# Altium integrated library TI_Logic_Flip-Flop,Latch,Register.IntLib: 2598 symbols (part 4 of 122)
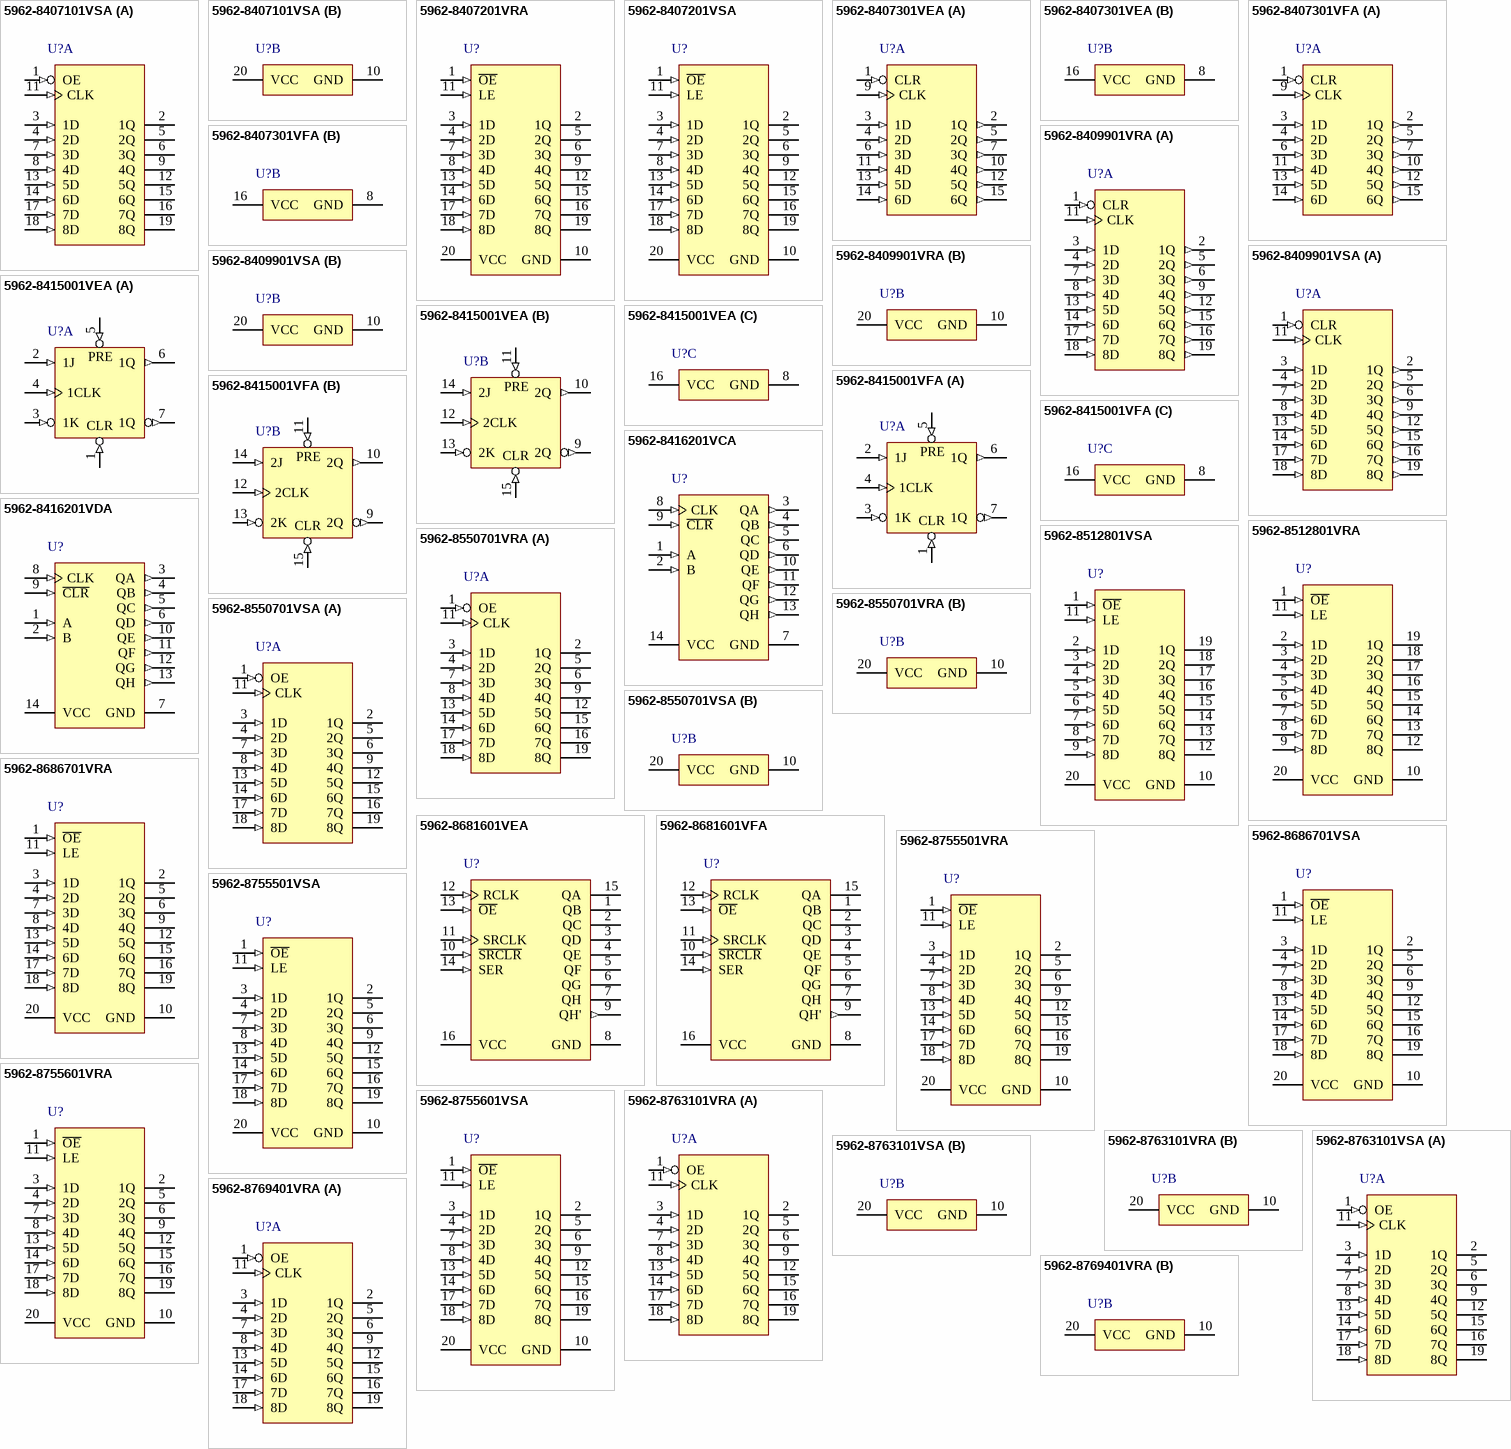
[diagram p142: symbols 5962-8407101VSA to 5962-8769401VRA]

## 5962-8755501VSA
designator U?
Octal D-type Transparent Latches With 3-State Outputs, W0020A, TUBE; Generic Part Number: SN54AC373-SP; Manufacturer: Texas Instruments; PartNumber: 5962-8755501VSA; VCC(Min)(V): 2; VCC(Max)(V): 6; Output Type: CMOS; Logic: True; ICC @ Nom Voltage(Max)(mA): 0.08; Bits(#): 8; F @ Nom Voltage(Max)(Mhz): 100; Rating: Space; Technology Family: AC; Voltage(Nom)(V): 3.3,5; Schmitt Trigger: No; Output Drive (IOL/IOH)(Max)(mA): 24/-24; Output Logic: Non-inverted; 3-State Output: Yes; tpd @ Nom Voltage(Max)(ns): 15,10.5; DatasheetVersion: SCAS540D; PackageReference: W0020A; Input Type: CMOS; Operating Temperature Range(C): -55 to 125; ComponentLink1Description: Manufacturer URL; ComponentLink1URL: http://www.ti.com/; ComponentLink2Description: Datasheet; ComponentLink2URL: http://www.ti.com/lit/ds/symlink/sn54ac373-sp.pdf; ComponentLink3Description: Package Specification; ComponentLink3URL: http://www.ti.com/lit/ml/mcfp006d/mcfp006d.pdf
footprint W0020A_N (CFP, 20-Leads, Body 13.72x7.62mm, Pitch 1.27mm, IPC Medium Density)
footprint W0020A_M (CFP, 20-Leads, Body 13.72x7.62mm, Pitch 1.27mm, IPC Low Density)
footprint W0020A_L (CFP, 20-Leads, Body 13.72x7.62mm, Pitch 1.27mm, IPC High Density)
pins: 1 ~{OE} (in) "Output Enable", 2 1Q (hiz) "1Q Output", 3 1D (in) "1D Input", 4 2D (in) "2D Input", 5 2Q (hiz) "2Q Output", 6 3Q (hiz) "3Q Output", 7 3D (in) "3D Input", 8 4D (in) "4D Input", 9 4Q (hiz) "4Q Output", 10 GND (power) "Ground Pin", 11 LE (in) "Latch Enable", 12 5Q (hiz) "5Q Output", 13 5D (in) "5D Input", 14 6D (in) "6D Input", 15 6Q (hiz) "6Q Output", 16 7Q (hiz) "7Q Output", 17 7D (in) "7D Input", 18 8D (in) "8D Input", 19 8Q (hiz) "8Q Output", 20 VCC (power) "Power Pin"

## 5962-8755601VRA
designator U?
Octal D-type Transparent Latches With 3-State Outputs, J0020A, TUBE; Generic Part Number: SN54ACT373-SP; Manufacturer: Texas Instruments; PartNumber: 5962-8755601VRA; VCC(Min)(V): 4.5; VCC(Max)(V): 5.5; Output Type: CMOS; Logic: True; ICC @ Nom Voltage(Max)(mA): 0.04; Input Type: TTL; Bits(#): 8; F @ Nom Voltage(Max)(Mhz): 90; Rating: Space; Technology Family: ACT; Schmitt Trigger: No; Output Drive (IOL/IOH)(Max)(mA): 24/-24; Output Logic: Non-inverted; 3-State Output: Yes; tpd @ Nom Voltage(Max)(ns): 11.5; DatasheetVersion: SCAS544E; PackageReference: J0020A; Operating Temperature Range(C): -55 to 125; ComponentLink1Description: Manufacturer URL; ComponentLink1URL: http://www.ti.com/; ComponentLink2Description: Datasheet; ComponentLink2URL: http://www.ti.com/lit/ds/symlink/sn54act373-sp.pdf; ComponentLink3Description: Package Specification; ComponentLink3URL: http://www.ti.com/lit/ml/mcer002d/mcer002d.pdf
footprint J0020A (DIP, 20-Leads, Body 26.9x7.2mm, Pitch 2.54mm)
pins: 1 ~{OE} (in) "Output Enable", 2 1Q (hiz) "1Q Output", 3 1D (in) "1D Input", 4 2D (in) "2D Input", 5 2Q (hiz) "2Q Output", 6 3Q (hiz) "3Q Output", 7 3D (in) "3D Input", 8 4D (in) "4D Input", 9 4Q (hiz) "4Q Output", 10 GND (power) "Ground Pin", 11 LE (in) "Latch Enable", 12 5Q (hiz) "5Q Output", 13 5D (in) "5D Input", 14 6D (in) "6D Input", 15 6Q (hiz) "6Q Output", 16 7Q (hiz) "7Q Output", 17 7D (in) "7D Input", 18 8D (in) "8D Input", 19 8Q (hiz) "8Q Output", 20 VCC (power) "Power Pin"

## 5962-8755601VSA
designator U?
Octal D-type Transparent Latches With 3-State Outputs, W0020A, TUBE; Generic Part Number: SN54ACT373-SP; Manufacturer: Texas Instruments; PartNumber: 5962-8755601VSA; VCC(Min)(V): 4.5; VCC(Max)(V): 5.5; Output Type: CMOS; Logic: True; ICC @ Nom Voltage(Max)(mA): 0.04; Input Type: TTL; Bits(#): 8; F @ Nom Voltage(Max)(Mhz): 90; Rating: Space; Technology Family: ACT; Schmitt Trigger: No; Output Drive (IOL/IOH)(Max)(mA): 24/-24; Output Logic: Non-inverted; 3-State Output: Yes; tpd @ Nom Voltage(Max)(ns): 11.5; DatasheetVersion: SCAS544E; PackageReference: W0020A; Operating Temperature Range(C): -55 to 125; ComponentLink1Description: Manufacturer URL; ComponentLink1URL: http://www.ti.com/; ComponentLink2Description: Datasheet; ComponentLink2URL: http://www.ti.com/lit/ds/symlink/sn54act373-sp.pdf; ComponentLink3Description: Package Specification; ComponentLink3URL: http://www.ti.com/lit/ml/mcfp006d/mcfp006d.pdf
footprint W0020A_N (CFP, 20-Leads, Body 13.72x7.62mm, Pitch 1.27mm, IPC Medium Density)
footprint W0020A_M (CFP, 20-Leads, Body 13.72x7.62mm, Pitch 1.27mm, IPC Low Density)
footprint W0020A_L (CFP, 20-Leads, Body 13.72x7.62mm, Pitch 1.27mm, IPC High Density)
pins: 1 ~{OE} (in) "Output Enable", 2 1Q (hiz) "1Q Output", 3 1D (in) "1D Input", 4 2D (in) "2D Input", 5 2Q (hiz) "2Q Output", 6 3Q (hiz) "3Q Output", 7 3D (in) "3D Input", 8 4D (in) "4D Input", 9 4Q (hiz) "4Q Output", 10 GND (power) "Ground Pin", 11 LE (in) "Latch Enable", 12 5Q (hiz) "5Q Output", 13 5D (in) "5D Input", 14 6D (in) "6D Input", 15 6Q (hiz) "6Q Output", 16 7Q (hiz) "7Q Output", 17 7D (in) "7D Input", 18 8D (in) "8D Input", 19 8Q (hiz) "8Q Output", 20 VCC (power) "Power Pin"

## 5962-8763101VRA
designator U?
Octal D-type Edge-Triggered Flip-Flops With 3-State Outputs, J0020A, TUBE; Generic Part Number: SN54ACT374-SP; Manufacturer: Texas Instruments; PartNumber: 5962-8763101VRA; VCC(Min)(V): 4.5; VCC(Max)(V): 5.5; Output Type: CMOS; ICC @ Nom Voltage(Max)(mA): 0.04; Input Type: TTL; Bits(#): 8; F @ Nom Voltage(Max)(Mhz): 90; Rating: Space; Technology Family: ACT; Schmitt Trigger: No; Output Drive (IOL/IOH)(Max)(mA): 24/-24; Output Logic: Non-inverted; 3-State Output: Yes; tpd @ Nom Voltage(Max)(ns): 11.5; DatasheetVersion: SCAS539F; PackageReference: J0020A; Operating Temperature Range(C): -55 to 125; ComponentLink1Description: Manufacturer URL; ComponentLink1URL: http://www.ti.com/; ComponentLink2Description: Datasheet; ComponentLink2URL: http://www.ti.com/lit/ds/symlink/sn54act374-sp.pdf; ComponentLink3Description: Package Specification; ComponentLink3URL: http://www.ti.com/lit/ml/mcer002d/mcer002d.pdf
footprint J0020A (DIP, 20-Leads, Body 26.9x7.2mm, Pitch 2.54mm)
part A pins: 1 OE (in), 2 1Q (hiz), 3 1D (in), 4 2D (in), 5 2Q (hiz), 6 3Q (hiz), 7 3D (in), 8 4D (in), 9 4Q (hiz), 11 CLK (in), 12 5Q (hiz), 13 5D (in), 14 6D (in), 15 6Q (hiz), 16 7Q (hiz), 17 7D (in), 18 8D (in), 19 8Q (hiz)
part B pins: 10 GND (power), 20 VCC (power)

## 5962-8763101VSA
designator U?
Octal D-type Edge-Triggered Flip-Flops With 3-State Outputs, W0020A, TUBE; Generic Part Number: SN54ACT374-SP; Manufacturer: Texas Instruments; PartNumber: 5962-8763101VSA; VCC(Min)(V): 4.5; VCC(Max)(V): 5.5; Output Type: CMOS; ICC @ Nom Voltage(Max)(mA): 0.04; Input Type: TTL; Bits(#): 8; F @ Nom Voltage(Max)(Mhz): 90; Rating: Space; Technology Family: ACT; Schmitt Trigger: No; Output Drive (IOL/IOH)(Max)(mA): 24/-24; Output Logic: Non-inverted; 3-State Output: Yes; tpd @ Nom Voltage(Max)(ns): 11.5; DatasheetVersion: SCAS539F; PackageReference: W0020A; Operating Temperature Range(C): -55 to 125; ComponentLink1Description: Manufacturer URL; ComponentLink1URL: http://www.ti.com/; ComponentLink2Description: Datasheet; ComponentLink2URL: http://www.ti.com/lit/ds/symlink/sn54act374-sp.pdf; ComponentLink3Description: Package Specification; ComponentLink3URL: http://www.ti.com/lit/ml/mcfp006d/mcfp006d.pdf
footprint W0020A_N (CFP, 20-Leads, Body 13.72x7.62mm, Pitch 1.27mm, IPC Medium Density)
footprint W0020A_M (CFP, 20-Leads, Body 13.72x7.62mm, Pitch 1.27mm, IPC Low Density)
footprint W0020A_L (CFP, 20-Leads, Body 13.72x7.62mm, Pitch 1.27mm, IPC High Density)
part A pins: 1 OE (in), 2 1Q (hiz), 3 1D (in), 4 2D (in), 5 2Q (hiz), 6 3Q (hiz), 7 3D (in), 8 4D (in), 9 4Q (hiz), 11 CLK (in), 12 5Q (hiz), 13 5D (in), 14 6D (in), 15 6Q (hiz), 16 7Q (hiz), 17 7D (in), 18 8D (in), 19 8Q (hiz)
part B pins: 10 GND (power), 20 VCC (power)

## 5962-8769401VRA
designator U?
Octal D-Type Edge-Triggered Flip-Flops with 3-State Outputs, J0020A, TUBE; Generic Part Number: SN54AC374-SP; Manufacturer: Texas Instruments; PartNumber: 5962-8769401VRA; VCC(Min)(V): 2; VCC(Max)(V): 6; Output Type: CMOS; ICC @ Nom Voltage(Max)(mA): 0.04; Bits(#): 8; F @ Nom Voltage(Max)(Mhz): 100; Rating: Space; Technology Family: AC; Voltage(Nom)(V): 3.3,5; Schmitt Trigger: No; Output Drive (IOL/IOH)(Max)(mA): 24/-24; Output Logic: Non-inverted; 3-State Output: Yes; tpd @ Nom Voltage(Max)(ns): 15.5,10.5; DatasheetVersion: SCAS543E; PackageReference: J0020A; Input Type: CMOS; Operating Temperature Range(C): -55 to 125; ComponentLink1Description: Manufacturer URL; ComponentLink1URL: http://www.ti.com/; ComponentLink2Description: Datasheet; ComponentLink2URL: http://www.ti.com/lit/ds/symlink/sn54ac374-sp.pdf; ComponentLink3Description: Package Specification; ComponentLink3URL: http://www.ti.com/lit/ml/mcer002d/mcer002d.pdf
footprint J0020A (DIP, 20-Leads, Body 26.9x7.2mm, Pitch 2.54mm)
part A pins: 1 OE (in), 2 1Q (hiz), 3 1D (in), 4 2D (in), 5 2Q (hiz), 6 3Q (hiz), 7 3D (in), 8 4D (in), 9 4Q (hiz), 11 CLK (in), 12 5Q (hiz), 13 5D (in), 14 6D (in), 15 6Q (hiz), 16 7Q (hiz), 17 7D (in), 18 8D (in), 19 8Q (hiz)
part B pins: 10 GND (power), 20 VCC (power)

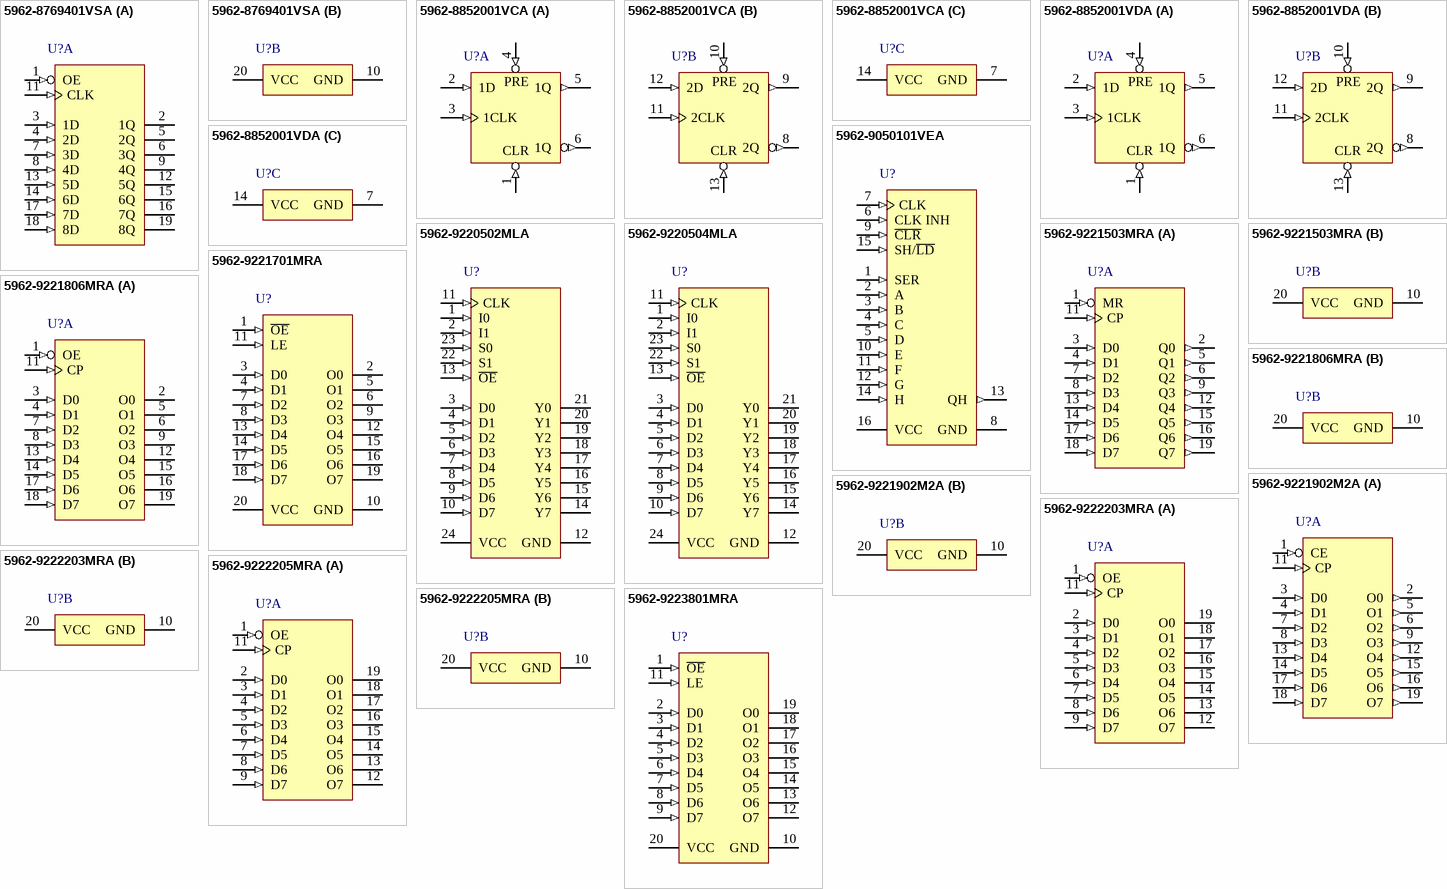
[diagram p5: symbols 5962-8769401VSA to 5962-9223801MRA]

## 5962-8769401VSA
designator U?
Octal D-Type Edge-Triggered Flip-Flops with 3-State Outputs, W0020A, TUBE; Generic Part Number: SN54AC374-SP; Manufacturer: Texas Instruments; PartNumber: 5962-8769401VSA; VCC(Min)(V): 2; VCC(Max)(V): 6; Output Type: CMOS; ICC @ Nom Voltage(Max)(mA): 0.04; Bits(#): 8; F @ Nom Voltage(Max)(Mhz): 100; Rating: Space; Technology Family: AC; Voltage(Nom)(V): 3.3,5; Schmitt Trigger: No; Output Drive (IOL/IOH)(Max)(mA): 24/-24; Output Logic: Non-inverted; 3-State Output: Yes; tpd @ Nom Voltage(Max)(ns): 15.5,10.5; DatasheetVersion: SCAS543E; PackageReference: W0020A; Input Type: CMOS; Operating Temperature Range(C): -55 to 125; ComponentLink1Description: Manufacturer URL; ComponentLink1URL: http://www.ti.com/; ComponentLink2Description: Datasheet; ComponentLink2URL: http://www.ti.com/lit/ds/symlink/sn54ac374-sp.pdf; ComponentLink3Description: Package Specification; ComponentLink3URL: http://www.ti.com/lit/ml/mcfp006d/mcfp006d.pdf
footprint W0020A_N (CFP, 20-Leads, Body 13.72x7.62mm, Pitch 1.27mm, IPC Medium Density)
footprint W0020A_M (CFP, 20-Leads, Body 13.72x7.62mm, Pitch 1.27mm, IPC Low Density)
footprint W0020A_L (CFP, 20-Leads, Body 13.72x7.62mm, Pitch 1.27mm, IPC High Density)
part A pins: 1 OE (in), 2 1Q (hiz), 3 1D (in), 4 2D (in), 5 2Q (hiz), 6 3Q (hiz), 7 3D (in), 8 4D (in), 9 4Q (hiz), 11 CLK (in), 12 5Q (hiz), 13 5D (in), 14 6D (in), 15 6Q (hiz), 16 7Q (hiz), 17 7D (in), 18 8D (in), 19 8Q (hiz)
part B pins: 10 GND (power), 20 VCC (power)

## 5962-8852001VCA
designator U?
Dual Positive-Edge-Triggered D-Type- Flip-Flops With Clear And Preset, J0014A, TUBE; Generic Part Number: SN54AC74-SP; Manufacturer: Texas Instruments; PartNumber: 5962-8852001VCA; VCC(Min)(V): 2; VCC(Max)(V): 6; Output Type: CMOS; Output: 3S; ICC @ Nom Voltage(Max)(mA): 0.02; F @ Nom Voltage(Max)(Mhz): 100; Rating: Space; Technology Family: AC; Voltage(Nom)(V): 3.3,5; Schmitt Trigger: No; Output Drive (IOL/IOH)(Max)(mA): 24/-24; tpd @ Nom Voltage(Max)(ns): 13.5,10.5; DatasheetVersion: SCAS521F; PackageReference: J0014A; Input Type: CMOS; Bits(#): 2; Operating Temperature Range(C): -55 to 125; ComponentLink1Description: Manufacturer URL; ComponentLink1URL: http://www.ti.com/; ComponentLink2Description: Datasheet; ComponentLink2URL: http://www.ti.com/lit/ds/symlink/sn54ac74-sp.pdf; ComponentLink3Description: Package Specification; ComponentLink3URL: http://www.ti.com/lit/ml/mcer002d/mcer002d.pdf
footprint J0014A (DIP, 14-Leads, Body 19.95x7.2mm, Pitch 2.54mm)
part A pins: 1 1~{CLR} (in), 2 1D (in), 3 1CLK (in), 4 1~{PRE} (in), 5 1Q (out), 6 1Q (out)
part B pins: 8 2Q (out), 9 2Q (out), 10 2~{PRE} (in), 11 2CLK (in), 12 2D (in), 13 2~{CLR} (in)
part C pins: 7 GND (power), 14 VCC (power)
part A text: PRE; CLR
part B text: PRE; CLR

## 5962-8852001VDA
designator U?
Dual Positive-Edge-Triggered D-Type- Flip-Flops With Clear And Preset, W0014A, TUBE; Generic Part Number: SN54AC74-SP; Manufacturer: Texas Instruments; PartNumber: 5962-8852001VDA; VCC(Min)(V): 2; VCC(Max)(V): 6; Output Type: CMOS; Output: 3S; ICC @ Nom Voltage(Max)(mA): 0.02; F @ Nom Voltage(Max)(Mhz): 100; Rating: Space; Technology Family: AC; Voltage(Nom)(V): 3.3,5; Schmitt Trigger: No; Output Drive (IOL/IOH)(Max)(mA): 24/-24; tpd @ Nom Voltage(Max)(ns): 13.5,10.5; DatasheetVersion: SCAS521F; PackageReference: W0014A; Input Type: CMOS; Bits(#): 2; Operating Temperature Range(C): -55 to 125; ComponentLink1Description: Manufacturer URL; ComponentLink1URL: http://www.ti.com/; ComponentLink2Description: Datasheet; ComponentLink2URL: http://www.ti.com/lit/ds/symlink/sn54ac74-sp.pdf; ComponentLink3Description: Package Specification; ComponentLink3URL: http://www.ti.com/lit/ml/mcfp002c/mcfp002c.pdf
footprint W0014A_N (CFP, 14-Leads, Body 9.91x6.6mm, Pitch 1.27mm, IPC Medium Density)
footprint W0014A_M (CFP, 14-Leads, Body 9.91x6.6mm, Pitch 1.27mm, IPC Low Density)
footprint W0014A_L (CFP, 14-Leads, Body 9.91x6.6mm, Pitch 1.27mm, IPC High Density)
part A pins: 1 1~{CLR} (in), 2 1D (in), 3 1CLK (in), 4 1~{PRE} (in), 5 1Q (out), 6 1Q (out)
part B pins: 8 2Q (out), 9 2Q (out), 10 2~{PRE} (in), 11 2CLK (in), 12 2D (in), 13 2~{CLR} (in)
part C pins: 7 GND (power), 14 VCC (power)
part A text: PRE; CLR
part B text: PRE; CLR

## 5962-9050101VEA
designator U?
Parallel-Load 8-Bit Shift Registers, J0016A, TUBE; Generic Part Number: SN54HC166-SP; Manufacturer: Texas Instruments; PartNumber: 5962-9050101VEA; Technology Family: HC; VCC(Min)(V): 2; VCC(Max)(V): 6; F @ Nom Voltage(Max)(Mhz): 28; ICC @ Nom Voltage(Max)(mA): 0.08; tpd @ Nom Voltage(Max)(ns): 32; Output Drive (IOL/IOH)(Max)(mA): 5.2/-5.2; Input Type: CMOS; 3-State Output: No; Rating: Space; DatasheetVersion: SCLS117D; PackageReference: J0016A; Voltage(Nom)(V): 6; Output Type: CMOS; ComponentLink1Description: Manufacturer URL; ComponentLink1URL: http://www.ti.com/; ComponentLink2Description: Datasheet; ComponentLink2URL: http://www.ti.com/lit/ds/symlink/sn54hc166-sp.pdf; ComponentLink3Description: Package Specification; ComponentLink3URL: http://www.ti.com/lit/ml/mcer002d/mcer002d.pdf
footprint J0016A (DIP, 16-Leads, Body 21.35x7.2mm, Pitch 2.54mm)
pins: 1 SER (in), 2 A (in), 3 B (in), 4 C (in), 5 D (in), 6 CLK INH (in), 7 CLK (in), 8 GND (power), 9 ~{CLR} (in), 10 E (in), 11 F (in), 12 G (in), 13 QH (out), 14 H (in), 15 SH/~{LD} (in), 16 VCC (power)

## 5962-9220502MLA
designator U?
8-Bit Multi-Level Pipeline Register, JT0024A, TUBE; Generic Part Number: CY29FCT520T; Manufacturer: Texas Instruments; PartNumber: 5962-9220502MLA; Technology Family: FCT; Bits: 8; DatasheetVersion: SCCS011C; PackageReference: JT0024A; Code_JEDEC: MO-058 AA; ComponentLink1Description: Manufacturer URL; ComponentLink1URL: http://www.ti.com/; ComponentLink2Description: Datasheet; ComponentLink2URL: http://www.ti.com/lit/ds/symlink/cy29fct520t.pdf; ComponentLink3Description: Package Specification; ComponentLink3URL: http://www.ti.com/lit/ml/mcer004a/mcer004a.pdf
footprint JT0024A (DIP, 24-Leads, Body 7.2x32.5mm, Pitch 2.54mm)
pins: 1 I0 (in), 2 I1 (in), 3 D0 (in), 4 D1 (in), 5 D2 (in), 6 D3 (in), 7 D4 (in), 8 D5 (in), 9 D6 (in), 10 D7 (in), 11 CLK (in), 12 GND (power), 13 ~{OE} (in), 14 Y7 (hiz), 15 Y6 (hiz), 16 Y5 (hiz), 17 Y4 (hiz), 18 Y3 (hiz), 19 Y2 (hiz), 20 Y1 (hiz), 21 Y0 (hiz), 22 S1 (in), 23 S0 (in), 24 VCC (power)

## 5962-9220504MLA
designator U?
8-Bit Multi-Level Pipeline Register, JT0024A, TUBE; Generic Part Number: CY29FCT520T; Manufacturer: Texas Instruments; PartNumber: 5962-9220504MLA; Technology Family: FCT; Bits: 8; DatasheetVersion: SCCS011C; PackageReference: JT0024A; Code_JEDEC: MO-058 AA; ComponentLink1Description: Manufacturer URL; ComponentLink1URL: http://www.ti.com/; ComponentLink2Description: Datasheet; ComponentLink2URL: http://www.ti.com/lit/ds/symlink/cy29fct520t.pdf; ComponentLink3Description: Package Specification; ComponentLink3URL: http://www.ti.com/lit/ml/mcer004a/mcer004a.pdf
footprint JT0024A (DIP, 24-Leads, Body 7.2x32.5mm, Pitch 2.54mm)
pins: 1 I0 (in), 2 I1 (in), 3 D0 (in), 4 D1 (in), 5 D2 (in), 6 D3 (in), 7 D4 (in), 8 D5 (in), 9 D6 (in), 10 D7 (in), 11 CLK (in), 12 GND (power), 13 ~{OE} (in), 14 Y7 (hiz), 15 Y6 (hiz), 16 Y5 (hiz), 17 Y4 (hiz), 18 Y3 (hiz), 19 Y2 (hiz), 20 Y1 (hiz), 21 Y0 (hiz), 22 S1 (in), 23 S0 (in), 24 VCC (power)

## 5962-9221503MRA
designator U?
Octal D-Type Flip-Flops with Clear, J0020A, TUBE; Generic Part Number: CY54FCT273T; Manufacturer: Texas Instruments; PartNumber: 5962-9221503MRA; Rating: Military; Technology Family: FCT; Schmitt Trigger: No; DatasheetVersion: SCCS020A; PackageReference: J0020A; Operating Temperature Range(C): -55 to 125; ComponentLink1Description: Manufacturer URL; ComponentLink1URL: http://www.ti.com/; ComponentLink2Description: Datasheet; ComponentLink2URL: http://www.ti.com/lit/ds/symlink/cy54fct273t.pdf; ComponentLink3Description: Package Specification; ComponentLink3URL: http://www.ti.com/lit/ml/mcer002d/mcer002d.pdf
footprint J0020A (DIP, 20-Leads, Body 26.9x7.2mm, Pitch 2.54mm)
part A pins: 1 MR (in), 2 Q0 (out), 3 D0 (in), 4 D1 (in), 5 Q1 (out), 6 Q2 (out), 7 D2 (in), 8 D3 (in), 9 Q3 (out), 11 CP (in), 12 Q4 (out), 13 D4 (in), 14 D5 (in), 15 Q5 (out), 16 Q6 (out), 17 D6 (in), 18 D7 (in), 19 Q7 (out)
part B pins: 10 GND (power), 20 VCC (power)

## 5962-9221701MRA
designator U?
Octal Transparent D-Type Latches with 3-State Outputs, J0020A, TUBE; Generic Part Number: CY54FCT373T; Manufacturer: Texas Instruments; PartNumber: 5962-9221701MRA; Rating: Military; Technology Family: FCT; Schmitt Trigger: No; DatasheetVersion: SCCS021B; PackageReference: J0020A; Operating Temperature Range(C): -55 to 125; ComponentLink1Description: Manufacturer URL; ComponentLink1URL: http://www.ti.com/; ComponentLink2Description: Datasheet; ComponentLink2URL: http://www.ti.com/lit/ds/symlink/cy54fct373t.pdf; ComponentLink3Description: Package Specification; ComponentLink3URL: http://www.ti.com/lit/ml/mcer002d/mcer002d.pdf
footprint J0020A (DIP, 20-Leads, Body 26.9x7.2mm, Pitch 2.54mm)
pins: 1 ~{OE} (in), 2 O0 (hiz), 3 D0 (in), 4 D1 (in), 5 O1 (hiz), 6 O2 (hiz), 7 D2 (in), 8 D3 (in), 9 O3 (hiz), 10 GND (power), 11 LE (in), 12 O4 (hiz), 13 D4 (in), 14 D5 (in), 15 O5 (hiz), 16 O6 (hiz), 17 D6 (in), 18 D7 (in), 19 O7 (hiz), 20 VCC (power)

## 5962-9221806MRA
designator U?
Octal D-Type Registers with 3-State Outputs, J0020A, TUBE; Generic Part Number: CY54FCT374T; Manufacturer: Texas Instruments; PartNumber: 5962-9221806MRA; Rating: Military; Technology Family: FCT; Schmitt Trigger: No; DatasheetVersion: SCCS022A; PackageReference: J0020A; Operating Temperature Range(C): -55 to 125; ComponentLink1Description: Manufacturer URL; ComponentLink1URL: http://www.ti.com/; ComponentLink2Description: Datasheet; ComponentLink2URL: http://www.ti.com/lit/ds/symlink/cy54fct374t.pdf; ComponentLink3Description: Package Specification; ComponentLink3URL: http://www.ti.com/lit/ml/mcer002d/mcer002d.pdf
footprint J0020A (DIP, 20-Leads, Body 26.9x7.2mm, Pitch 2.54mm)
part A pins: 1 OE (in), 2 O0 (hiz), 3 D0 (in), 4 D1 (in), 5 O1 (hiz), 6 O2 (hiz), 7 D2 (in), 8 D3 (in), 9 O3 (hiz), 11 CP (in), 12 O4 (hiz), 13 D4 (in), 14 D5 (in), 15 O5 (hiz), 16 O6 (hiz), 17 D6 (in), 18 D7 (in), 19 O7 (hiz)
part B pins: 10 GND (power), 20 VCC (power)

## 5962-9221902M2A
designator U?
Octal D-Type Flip-Flops with Enable, FK0020A, TUBE; Generic Part Number: CY54FCT377T; Manufacturer: Texas Instruments; PartNumber: 5962-9221902M2A; Rating: Military; Technology Family: FCT; Schmitt Trigger: No; DatasheetVersion: SCCS023A; PackageReference: FK0020A; Operating Temperature Range(C): -55 to 125; Code_JEDEC: MS-004; ComponentLink1Description: Manufacturer URL; ComponentLink1URL: http://www.ti.com/; ComponentLink2Description: Datasheet; ComponentLink2URL: http://www.ti.com/lit/ds/symlink/cy54fct377t.pdf; ComponentLink3Description: Package Specification; ComponentLink3URL: http://www.ti.com/lit/ml/mlcc006d/mlcc006d.pdf
footprint FK0020A_N (LCC, 20-Leads, Body 8.9x8.9mm, Pitch 1.27mm, IPC Medium Density)
footprint FK0020A_M (LCC, 20-Leads, Body 8.9x8.9mm, Pitch 1.27mm, IPC Low Density)
footprint FK0020A_L (LCC, 20-Leads, Body 8.9x8.9mm, Pitch 1.27mm, IPC High Density)
part A pins: 1 CE (in), 2 O0 (out), 3 D0 (in), 4 D1 (in), 5 O1 (out), 6 O2 (out), 7 D2 (in), 8 D3 (in), 9 O3 (out), 11 CP (in), 12 O4 (out), 13 D4 (in), 14 D5 (in), 15 O5 (out), 16 O6 (out), 17 D6 (in), 18 D7 (in), 19 O7 (out)
part B pins: 10 GND (power), 20 VCC (power)

## 5962-9222203MRA
designator U?
Octal Edge-Triggered D-Type Flip-Flops with 3-State Outputs, J0020A, TUBE; Generic Part Number: CY54FCT574T; Manufacturer: Texas Instruments; PartNumber: 5962-9222203MRA; Rating: Military; Technology Family: FCT; Schmitt Trigger: No; DatasheetVersion: SCCS073; PackageReference: J0020A; Operating Temperature Range(C): -55 to 125; ComponentLink1Description: Manufacturer URL; ComponentLink1URL: http://www.ti.com/; ComponentLink2Description: Datasheet; ComponentLink2URL: http://www.ti.com/lit/ds/symlink/cy54fct574t.pdf; ComponentLink3Description: Package Specification; ComponentLink3URL: http://www.ti.com/lit/ml/mcer002d/mcer002d.pdf
footprint J0020A (DIP, 20-Leads, Body 26.9x7.2mm, Pitch 2.54mm)
part A pins: 1 OE (in), 2 D0 (in), 3 D1 (in), 4 D2 (in), 5 D3 (in), 6 D4 (in), 7 D5 (in), 8 D6 (in), 9 D7 (in), 11 CP (in), 12 O7 (hiz), 13 O6 (hiz), 14 O5 (hiz), 15 O4 (hiz), 16 O3 (hiz), 17 O2 (hiz), 18 O1 (hiz), 19 O0 (hiz)
part B pins: 10 GND (power), 20 VCC (power)

## 5962-9222205MRA
designator U?
Octal Edge-Triggered D-Type Flip-Flops with 3-State Outputs, J0020A, TUBE; Generic Part Number: CY54FCT574T; Manufacturer: Texas Instruments; PartNumber: 5962-9222205MRA; Rating: Military; Technology Family: FCT; Schmitt Trigger: No; DatasheetVersion: SCCS073; PackageReference: J0020A; Operating Temperature Range(C): -55 to 125; ComponentLink1Description: Manufacturer URL; ComponentLink1URL: http://www.ti.com/; ComponentLink2Description: Datasheet; ComponentLink2URL: http://www.ti.com/lit/ds/symlink/cy54fct574t.pdf; ComponentLink3Description: Package Specification; ComponentLink3URL: http://www.ti.com/lit/ml/mcer002d/mcer002d.pdf
footprint J0020A (DIP, 20-Leads, Body 26.9x7.2mm, Pitch 2.54mm)
part A pins: 1 OE (in), 2 D0 (in), 3 D1 (in), 4 D2 (in), 5 D3 (in), 6 D4 (in), 7 D5 (in), 8 D6 (in), 9 D7 (in), 11 CP (in), 12 O7 (hiz), 13 O6 (hiz), 14 O5 (hiz), 15 O4 (hiz), 16 O3 (hiz), 17 O2 (hiz), 18 O1 (hiz), 19 O0 (hiz)
part B pins: 10 GND (power), 20 VCC (power)

## 5962-9223801MRA
designator U?
Octal Transparent D-Type Latches with 3-State Outputs, J0020A, TUBE; Generic Part Number: CY54FCT573T; Manufacturer: Texas Instruments; PartNumber: 5962-9223801MRA; Rating: Military; Technology Family: FCT; Schmitt Trigger: No; DatasheetVersion: SCCS068; PackageReference: J0020A; Operating Temperature Range(C): -55 to 125; ComponentLink1Description: Manufacturer URL; ComponentLink1URL: http://www.ti.com/; ComponentLink2Description: Datasheet; ComponentLink2URL: http://www.ti.com/lit/ds/symlink/cy54fct573t.pdf; ComponentLink3Description: Package Specification; ComponentLink3URL: http://www.ti.com/lit/ml/mcer002d/mcer002d.pdf
footprint J0020A (DIP, 20-Leads, Body 26.9x7.2mm, Pitch 2.54mm)
pins: 1 ~{OE} (in), 2 D0 (in), 3 D1 (in), 4 D2 (in), 5 D3 (in), 6 D4 (in), 7 D5 (in), 8 D6 (in), 9 D7 (in), 10 GND (power), 11 LE (in), 12 O7 (hiz), 13 O6 (hiz), 14 O5 (hiz), 15 O4 (hiz), 16 O3 (hiz), 17 O2 (hiz), 18 O1 (hiz), 19 O0 (hiz), 20 VCC (power)

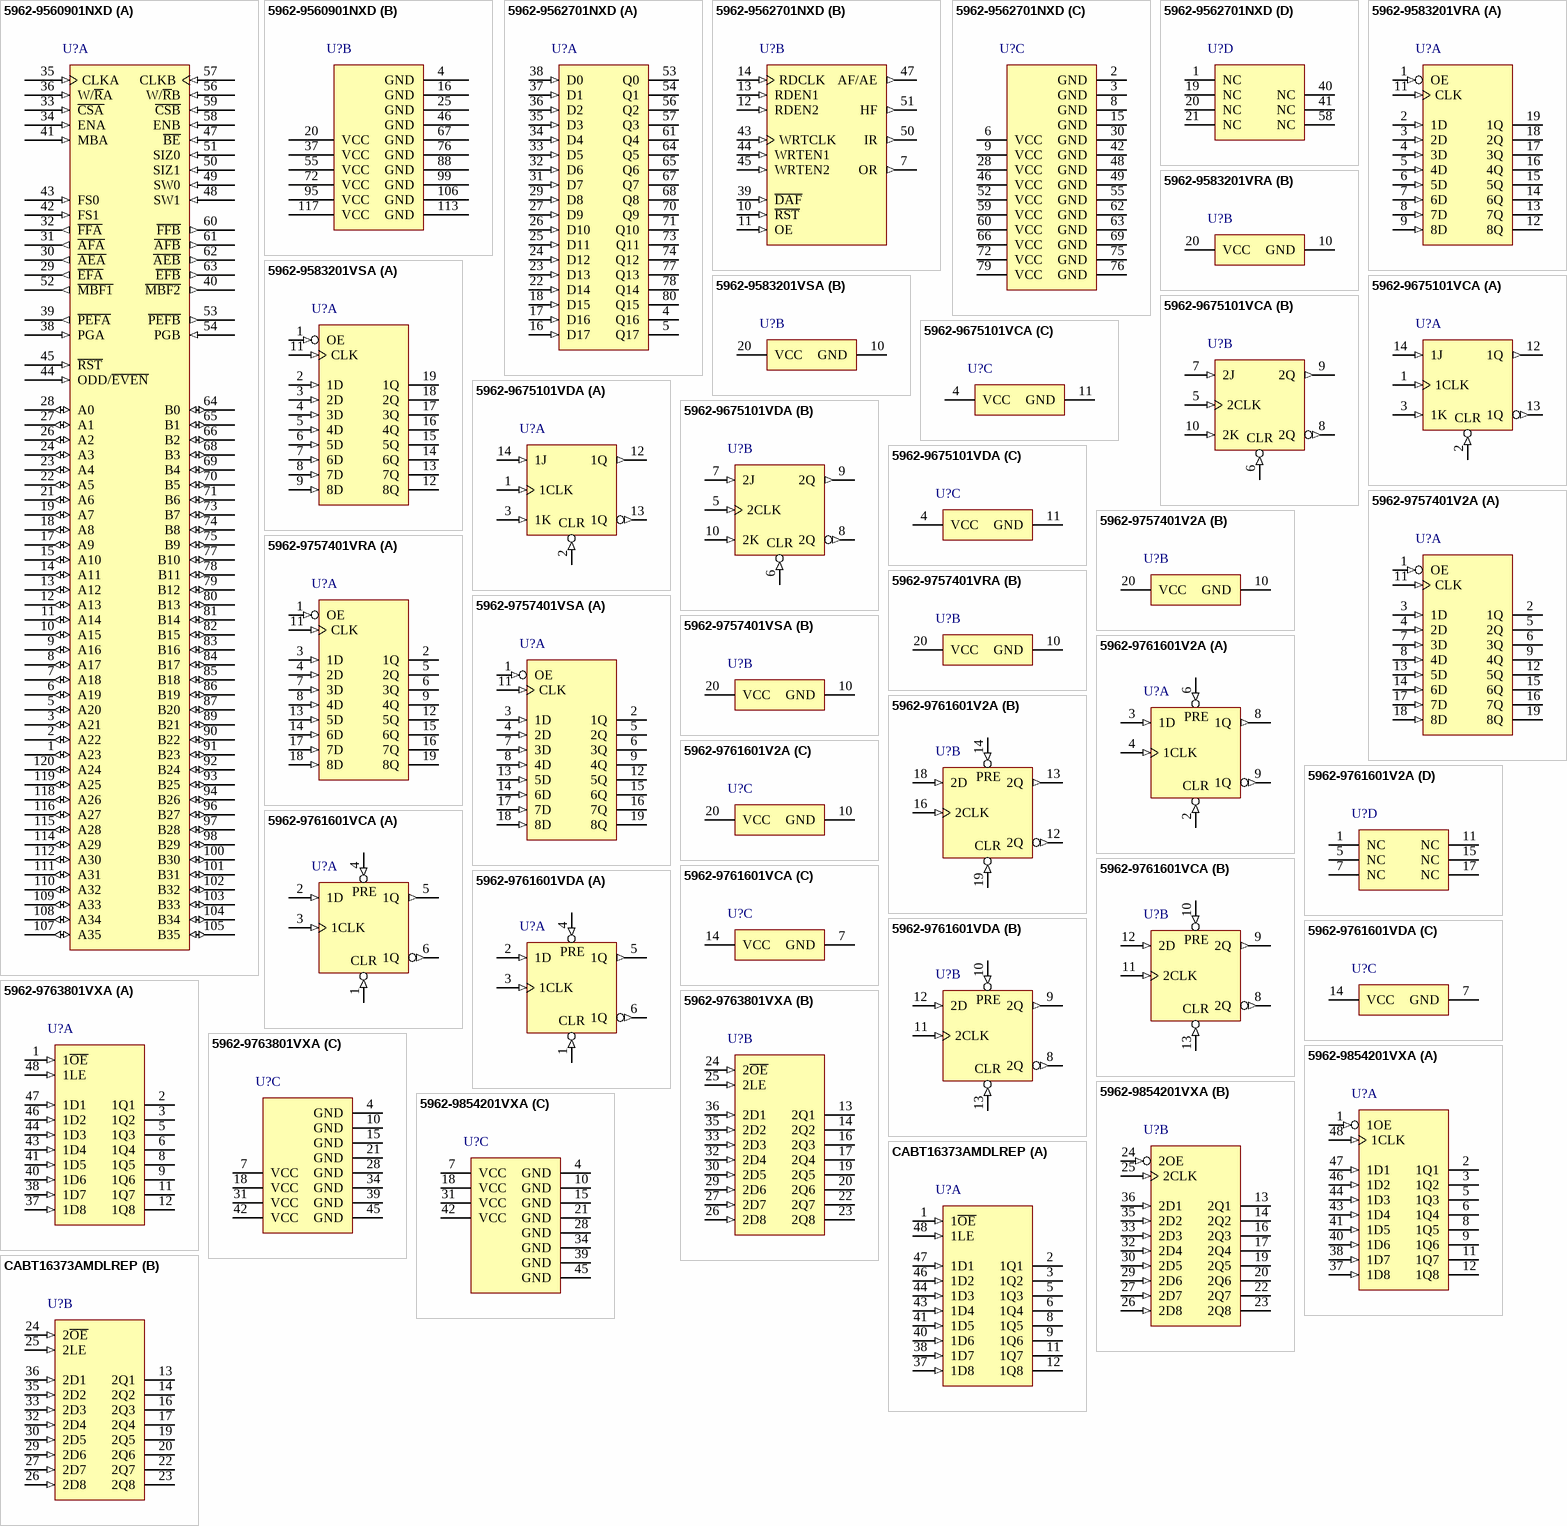
[diagram p6: symbols 5962-9560901NXD to CABT16373AMDLREP]

## 5962-9560901NXD
designator U?
64 x 36 x 2 Synchronous Bidirectional FIFO Memory with Bus Matching, PCB0120A, JEDEC TRAY (5+1); Generic Part Number: SN54ABT3614; Manufacturer: Texas Instruments; PartNumber: 5962-9560901NXD; Vcc range(V): 4.5 to 5.5; Fmax(MHz): 50; Voltage Nodes(V): 5; Sync/Async: S; Rating: Military; DatasheetVersion: SGBS308F; PackageReference: PCB0120A; Depth: 64; Width: 36; Operating Temperature Range(C): -55 to 125; Code_JEDEC: MS-026; ComponentLink1Description: Manufacturer URL; ComponentLink1URL: http://www.ti.com/; ComponentLink2Description: Datasheet; ComponentLink2URL: http://www.ti.com/lit/ds/symlink/sn54abt3614.pdf; ComponentLink3Description: Package Specification; ComponentLink3URL: http://www.ti.com/lit/ml/mhtq004a/mhtq004a.pdf
footprint PCB0120A_N (QFP, 120-Leads, Body 14x14mm, Pitch 0.4mm, IPC Medium Density)
footprint PCB0120A_M (QFP, 120-Leads, Body 14x14mm, Pitch 0.4mm, IPC Low Density)
footprint PCB0120A_L (QFP, 120-Leads, Body 14x14mm, Pitch 0.4mm, IPC High Density)
part A pins: 1 A23 (io) "Port-A data. The 36-bit bidirectional data port for side A.", 2 A22 (io) "Port-A data. The 36-bit bidirectional data port for side A.", 3 A21 (io) "Port-A data. The 36-bit bidirectional data port for side A.", 5 A20 (io) "Port-A data. The 36-bit bidirectional data port for side A.", 6 A19 (io) "Port-A data. The 36-bit bidirectional data port for side A.", 7 A18 (io) "Port-A data. The 36-bit bidirectional data port for side A.", 8 A17 (io) "Port-A data. The 36-bit bidirectional data port for side A.", 9 A16 (io) "Port-A data. The 36-bit bidirectional data port for side A.", 10 A15 (io) "Port-A data. The 36-bit bidirectional data port for side A.", 11 A14 (io) "Port-A data. The 36-bit bidirectional data port for side A.", 12 A13 (io) "Port-A data. The 36-bit bidirectional data port for side A.", 13 A12 (io) "Port-A data. The 36-bit bidirectional data port for side A.", 14 A11 (io) "Port-A data. The 36-bit bidirectional data port for side A.", 15 A10 (io) "Port-A data. The 36-bit bidirectional data port for side A.", 17 A9 (io) "Port-A data. The 36-bit bidirectional data port for side A.", 18 A8 (io) "Port-A data. The 36-bit bidirectional data port for side A.", 19 A7 (io) "Port-A data. The 36-bit bidirectional data port for side A.", 21 A6 (io) "Port-A data. The 36-bit bidirectional data port for side A.", 22 A5 (io) "Port-A data. The 36-bit bidirectional data port for side A.", 23 A4 (io) "Port-A data. The 36-bit bidirectional data port for side A.", 24 A3 (io) "Port-A data. The 36-bit bidirectional data port for side A.", 26 A2 (io) "Port-A data. The 36-bit bidirectional data port for side A.", 27 A1 (io) "Port-A data. The 36-bit bidirectional data port for side A.", 28 A0 (io) "Port-A data. The 36-bit bidirectional data port for side A.", 29 ~{EFA} (out) "Port-A empty flag. E\F\A\ is synchronized to the low-to-high transition of CLKA. When E\F\A\ is low, FIFO2 is empty and reads from its memory are disabled. Data can be read from FIFO2 to the output register when E\F\A\ is (See Datasheet)", 30 ~{AEA} (out) "Port-A almost-empty flag. Programmable flag synchronized to CLKA. A\E\A\ is low when the number of 36-bit words in FIFO2 is less than or equal to the value in offset register X.", 31 ~{AFA} (out) "Port-A almost-full flag. Programmable flag synchronized to CLKA. A\F\A\ is low when the number of 36-bit empty locations in FIFO1 is less than or equal to the value in offset register X.", 32 ~{FFA} (out) "Port-A full flag. F\F\A\ is synchronized to the low-to-high transition of CLKA. When F\F\A\ is low, FIFO1 is full and writes to its memory are disabled. F\F\A\ is forced low when the device is reset and is set high by the (See Datasheet)", 33 ~{CSA} (in) "Port-A chip select. C\S\A\ must be low to enable a low-to-high transition of CLKA to read or write data on port A. The A0-A35 outputs are in the high-impedance state when C\S\A\ is high.", 34 ENA (in) "Port-A enable. ENA must be high to enable a low-to-high transition of CLKA to read or write data on port A.", 35 CLKA (in) "Port-A clock. CLKA is a continuous clock that synchronizes all data transfers through port A and can be asynchronous or coincident to CLKB. E\F\A\, F\F\A\, A\F\A\, and A\E\A\ are synchronized to the low-to-high transition of (See Datasheet)", 36 W/~{R}A (in) "Port-A write/read select. W/R\A high selects a write operation and a low selects a read operation on port A for a low-to-high transition of CLKA. The A0-A35 outputs are in the high-impedance state when W/R\A is high.", 38 PGA (in) "Port-A parity generation. Parity is generated for data reads from port A when PGA is high. The type of parity generated is selected by the state of the ODD/E\V\E\N\ input. Bytes are organized as A0-A8, A9-A17, A18-A26, and (See Datasheet)", 39 ~{PEFA} (out) "Port-A parity-error flag. When any byte applied to terminals A0-A35 fails parity, P\E\F\A\ is low. Bytes are organized as A0-A8, A9-A17, A18-A26, and A27-A35, with the most-significant bit of each byte serving as the parity (See Datasheet)", 40 ~{MBF2} (out) "Mail2 register flag. M\B\F\2\ is set low by the low-to-high transition of CLKB that writes data to the mail2 register. Writes to the mail2 register are inhibited while M\B\F\2\ is low. M\B\F\2\ is set high by a low-to-high (See Datasheet)", 41 MBA (in) "Port-A mailbox select. A high level on MBA chooses a mailbox register for a port-A read or write operation. When the A0-A35 outputs are active, a high level on MBA selects data from the mail2 register for output and a low (See Datasheet)", 42 FS1 (in) "Flag offset selects. The low-to-high transition of R\S\T\ latches the values of FS0 and FS1, which selects one of four preset values for the A\E\ flag and A\F\ flag offset.", 43 FS0 (in) "Flag offset selects. The low-to-high transition of R\S\T\ latches the values of FS0 and FS1, which selects one of four preset values for the A\E\ flag and A\F\ flag offset.", 44 ODD/~{EVEN} (in) "Odd/even parity select. Odd parity is checked on each port when ODD/E\V\E\N\ is high and even parity is checked when ODD/E\V\E\N\ is low. ODD/E\V\E\N\ also selects the type of parity generated for each port if parity (See Datasheet)", 45 ~{RST} (in) "Reset. To reset the device, four low-to-high transitions of CLKA and four low-to-high transitions of CLKB must occur while R\S\T\ is low. This sets the A\F\A\, A\F\B\, M\B\F\1\, and M\B\F\2\ flags high and the E\F\A\, (See Datasheet)", 47 ~{BE} (in) "Big-endian select. Selects the bytes on port B used during byte or word data transfer. A low on B\E\ selects the most-significant bytes on B0-B35 for use, and a high selects the least-significant bytes.", 48 SW1 (in) "Port-B byte-swap selects. At the beginning of each long word transfer, one of four modes of byte-order swapping is selected by SW0 and SW1. The four modes are no swap, byte swap, word swap, and byte-word swap. Byte-order (See Datasheet)", 49 SW0 (in) "Port-B byte-swap selects. At the beginning of each long word transfer, one of four modes of byte-order swapping is selected by SW0 and SW1. The four modes are no swap, byte swap, word swap, and byte-word swap. Byte-order (See Datasheet)", 50 SIZ1 (in) "Port-B bus-size selects. The low-to-high transition of CLKB latches the states of SIZ0, SIZ1, and B\E\, and the following low-to-high transition of CLKB implements the latched states as a port-B bus size. Port-B bus sizes (See Datasheet)", 51 SIZ0 (in) "Port-B bus-size selects. The low-to-high transition of CLKB latches the states of SIZ0, SIZ1, and B\E\, and the following low-to-high transition of CLKB implements the latched states as a port-B bus size. Port-B bus sizes (See Datasheet)", 52 ~{MBF1} (out) "Mail1 register flag. M\B\F\1\ is set low by the low-to-high transition of CLKA that writes data to the mail1 register. Writes to the mail1 register are inhibited while M\B\F\1\ is low. M\B\F\1\ is set high by a low-to-high (See Datasheet)", 53 ~{PEFB} (out) "Port-B parity-error flag. When any valid byte applied to terminals B0-B35 fails parity, P\E\F\B\ is low. Bytes are organized as B0-B8, B9-B17, B18-B26, and B27-B35, with the most-significant bit of each byte serving as the (See Datasheet)", 54 PGB (in) "Port-B parity generation. Parity is generated for data reads from port B when PGB is high. The type of parity generated is selected by the state of the ODD/E\V\E\N\ input. Bytes are organized as B0-B8, B9-B17, B18-B26, and (See Datasheet)", 56 W/~{R}B (in) "Port-B write/read select. W/R\B high selects a write operation and a low selects a read operation on port B for a low-to-high transition of CLKB. The B0-B35 outputs are in the high-impedance state when W/R\B is high.", 57 CLKB (in) "Port-B clock. CLKB is a continuous clock that synchronizes all data transfers through port B and can be asynchronous or coincident to CLKA. Port-B byte swapping and data-port-sizing operations are also synchronous to the (See Datasheet)", 58 ENB (in) "Port-B enable. ENB must be high to enable a low-to-high transition of CLKB to read or write data on port B.", 59 ~{CSB} (in) "Port-B chip select. C\S\B\ must be low to enable a low-to-high transition of CLKB to read or write data on port B. The B0-B35 outputs are in the high-impedance state when C\S\B\ is high.", 60 ~{FFB} (out) "Port-B full flag. F\F\B\ is synchronized to the low-to-high transition of CLKB. When F\F\B\ is low, FIFO2 is full and writes to its memory are disabled. F\F\B\ is forced low when the device is reset and is set high by the (See Datasheet)", 61 ~{AFB} (out) "Port-B almost-full flag. Programmable flag synchronized to CLKB. A\F\B\ is low when the number of 36-bit empty locations in FIFO2 is less than or equal to the value in offset register X.", 62 ~{AEB} (out) "Port-B almost-empty flag. Programmable flag synchronized to CLKB. A\E\B\ is low when the number of 36-bit words in FIFO1 is less than or equal to the value in offset register X.", 63 ~{EFB} (out) "Port-B empty flag. E\F\B\ is synchronized to the low-to-high transition of CLKB. When E\F\B\ is low, FIFO1 is empty and reads from its memory are disabled. Data can be read from FIFO1 to the output register when E\F\B\ is (See Datasheet)", 64 B0 (io) "Port-B data. The 36-bit bidirectional data port for side B.", 65 B1 (io) "Port-B data. The 36-bit bidirectional data port for side B.", 66 B2 (io) "Port-B data. The 36-bit bidirectional data port for side B.", 68 B3 (io) "Port-B data. The 36-bit bidirectional data port for side B.", 69 B4 (io) "Port-B data. The 36-bit bidirectional data port for side B.", 70 B5 (io) "Port-B data. The 36-bit bidirectional data port for side B.", 71 B6 (io) "Port-B data. The 36-bit bidirectional data port for side B.", 73 B7 (io) "Port-B data. The 36-bit bidirectional data port for side B.", 74 B8 (io) "Port-B data. The 36-bit bidirectional data port for side B.", 75 B9 (io) "Port-B data. The 36-bit bidirectional data port for side B.", 77 B10 (io) "Port-B data. The 36-bit bidirectional data port for side B.", 78 B11 (io) "Port-B data. The 36-bit bidirectional data port for side B.", 79 B12 (io) "Port-B data. The 36-bit bidirectional data port for side B.", 80 B13 (io) "Port-B data. The 36-bit bidirectional data port for side B.", 81 B14 (io) "Port-B data. The 36-bit bidirectional data port for side B.", 82 B15 (io) "Port-B data. The 36-bit bidirectional data port for side B.", 83 B16 (io) "Port-B data. The 36-bit bidirectional data port for side B.", 84 B17 (io) "Port-B data. The 36-bit bidirectional data port for side B.", 85 B18 (io) "Port-B data. The 36-bit bidirectional data port for side B.", 86 B19 (io) "Port-B data. The 36-bit bidirectional data port for side B.", 87 B20 (io) "Port-B data. The 36-bit bidirectional data port for side B.", 89 B21 (io) "Port-B data. The 36-bit bidirectional data port for side B.", 90 B22 (io) "Port-B data. The 36-bit bidirectional data port for side B.", 91 B23 (io) "Port-B data. The 36-bit bidirectional data port for side B.", 92 B24 (io) "Port-B data. The 36-bit bidirectional data port for side B.", 93 B25 (io) "Port-B data. The 36-bit bidirectional data port for side B.", 94 B26 (io) "Port-B data. The 36-bit bidirectional data port for side B.", 96 B27 (io) "Port-B data. The 36-bit bidirectional data port for side B.", 97 B28 (io) "Port-B data. The 36-bit bidirectional data port for side B.", 98 B29 (io) "Port-B data. The 36-bit bidirectional data port for side B.", 100 B30 (io) "Port-B data. The 36-bit bidirectional data port for side B.", 101 B31 (io) "Port-B data. The 36-bit bidirectional data port for side B.", 102 B32 (io) "Port-B data. The 36-bit bidirectional data port for side B.", 103 B33 (io) "Port-B data. The 36-bit bidirectional data port for side B.", 104 B34 (io) "Port-B data. The 36-bit bidirectional data port for side B.", 105 B35 (io) "Port-B data. The 36-bit bidirectional data port for side B.", 107 A35 (io) "Port-A data. The 36-bit bidirectional data port for side A.", 108 A34 (io) "Port-A data. The 36-bit bidirectional data port for side A.", 109 A33 (io) "Port-A data. The 36-bit bidirectional data port for side A.", 110 A32 (io) "Port-A data. The 36-bit bidirectional data port for side A.", 111 A31 (io) "Port-A data. The 36-bit bidirectional data port for side A.", 112 A30 (io) "Port-A data. The 36-bit bidirectional data port for side A.", 114 A29 (io) "Port-A data. The 36-bit bidirectional data port for side A.", 115 A28 (io) "Port-A data. The 36-bit bidirectional data port for side A.", 116 A27 (io) "Port-A data. The 36-bit bidirectional data port for side A.", 118 A26 (io) "Port-A data. The 36-bit bidirectional data port for side A.", 119 A25 (io) "Port-A data. The 36-bit bidirectional data port for side A.", 120 A24 (io) "Port-A data. The 36-bit bidirectional data port for side A."
part B pins: 4 GND (power), 16 GND (power), 20 VCC (power), 25 GND (power), 37 VCC (power), 46 GND (power), 55 VCC (power), 67 GND (power), 72 VCC (power), 76 GND (power), 88 GND (power), 95 VCC (power), 99 GND (power), 106 GND (power), 113 GND (power), 117 VCC (power)

## 5962-9562701NXD
designator U?
1024 x 18 Synchronous FIFO Memory, PN0080A, JEDEC TRAY (10+1); Generic Part Number: SN54ACT7881; Manufacturer: Texas Instruments; PartNumber: 5962-9562701NXD; Vcc range(V): 4.5 to 5.5; Fmax(MHz): 50; Voltage Nodes(V): 5; Sync/Async: S; Rating: Military; DatasheetVersion: SGAS004A; PackageReference: PN0080A; Depth: 1024; Width: 18; Operating Temperature Range(C): -55 to 125; Code_JEDEC: MS-026; ComponentLink1Description: Manufacturer URL; ComponentLink1URL: http://www.ti.com/; ComponentLink2Description: Datasheet; ComponentLink2URL: http://www.ti.com/lit/ds/symlink/sn54act7881.pdf; ComponentLink3Description: Package Specification; ComponentLink3URL: http://www.ti.com/lit/ml/mtqf010a/mtqf010a.pdf
footprint PN0080A_N (QFP, 80-Leads, Body 12x12mm, Pitch 0.5mm, IPC Medium Density)
footprint PN0080A_M (QFP, 80-Leads, Body 12x12mm, Pitch 0.5mm, IPC Low Density)
footprint PN0080A_L (QFP, 80-Leads, Body 12x12mm, Pitch 0.5mm, IPC High Density)
part A pins: 4 Q16 (hiz) "Data out. The first data word to be loaded into the FIFO is moved to Q0-Q17 on the rising edge of the third RDCLK pulse to occur after the first valid write. RDEN1 and RDEN2 do not affect this operation. Following data is (See Datasheet)", 5 Q17 (hiz) "Data out. The first data word to be loaded into the FIFO is moved to Q0-Q17 on the rising edge of the third RDCLK pulse to occur after the first valid write. RDEN1 and RDEN2 do not affect this operation. Following data is (See Datasheet)", 16 D17 (in) "Data inputs for 18-bit-wide data to be stored in the memory. A high-to-low transition on D\A\F\ captures data for the almost-empty/almost-full offset (X) from D9-D0.", 17 D16 (in) "Data inputs for 18-bit-wide data to be stored in the memory. A high-to-low transition on D\A\F\ captures data for the almost-empty/almost-full offset (X) from D9-D0.", 18 D15 (in) "Data inputs for 18-bit-wide data to be stored in the memory. A high-to-low transition on D\A\F\ captures data for the almost-empty/almost-full offset (X) from D9-D0.", 22 D14 (in) "Data inputs for 18-bit-wide data to be stored in the memory. A high-to-low transition on D\A\F\ captures data for the almost-empty/almost-full offset (X) from D9-D0.", 23 D13 (in) "Data inputs for 18-bit-wide data to be stored in the memory. A high-to-low transition on D\A\F\ captures data for the almost-empty/almost-full offset (X) from D9-D0.", 24 D12 (in) "Data inputs for 18-bit-wide data to be stored in the memory. A high-to-low transition on D\A\F\ captures data for the almost-empty/almost-full offset (X) from D9-D0.", 25 D11 (in) "Data inputs for 18-bit-wide data to be stored in the memory. A high-to-low transition on D\A\F\ captures data for the almost-empty/almost-full offset (X) from D9-D0.", 26 D10 (in) "Data inputs for 18-bit-wide data to be stored in the memory. A high-to-low transition on D\A\F\ captures data for the almost-empty/almost-full offset (X) from D9-D0.", 27 D9 (in) "Data inputs for 18-bit-wide data to be stored in the memory. A high-to-low transition on D\A\F\ captures data for the almost-empty/almost-full offset (X) from D9-D0.", 29 D8 (in) "Data inputs for 18-bit-wide data to be stored in the memory. A high-to-low transition on D\A\F\ captures data for the almost-empty/almost-full offset (X) from D9-D0.", 31 D7 (in) "Data inputs for 18-bit-wide data to be stored in the memory. A high-to-low transition on D\A\F\ captures data for the almost-empty/almost-full offset (X) from D9-D0.", 32 D6 (in) "Data inputs for 18-bit-wide data to be stored in the memory. A high-to-low transition on D\A\F\ captures data for the almost-empty/almost-full offset (X) from D9-D0.", 33 D5 (in) "Data inputs for 18-bit-wide data to be stored in the memory. A high-to-low transition on D\A\F\ captures data for the almost-empty/almost-full offset (X) from D9-D0.", 34 D4 (in) "Data inputs for 18-bit-wide data to be stored in the memory. A high-to-low transition on D\A\F\ captures data for the almost-empty/almost-full offset (X) from D9-D0.", 35 D3 (in) "Data inputs for 18-bit-wide data to be stored in the memory. A high-to-low transition on D\A\F\ captures data for the almost-empty/almost-full offset (X) from D9-D0.", 36 D2 (in) "Data inputs for 18-bit-wide data to be stored in the memory. A high-to-low transition on D\A\F\ captures data for the almost-empty/almost-full offset (X) from D9-D0.", 37 D1 (in) "Data inputs for 18-bit-wide data to be stored in the memory. A high-to-low transition on D\A\F\ captures data for the almost-empty/almost-full offset (X) from D9-D0.", 38 D0 (in) "Data inputs for 18-bit-wide data to be stored in the memory. A high-to-low transition on D\A\F\ captures data for the almost-empty/almost-full offset (X) from D9-D0.", 53 Q0 (hiz) "Data out. The first data word to be loaded into the FIFO is moved to Q0-Q17 on the rising edge of the third RDCLK pulse to occur after the first valid write. RDEN1 and RDEN2 do not affect this operation. Following data is (See Datasheet)", 54 Q1 (hiz) "Data out. The first data word to be loaded into the FIFO is moved to Q0-Q17 on the rising edge of the third RDCLK pulse to occur after the first valid write. RDEN1 and RDEN2 do not affect this operation. Following data is (See Datasheet)", 56 Q2 (hiz) "Data out. The first data word to be loaded into the FIFO is moved to Q0-Q17 on the rising edge of the third RDCLK pulse to occur after the first valid write. RDEN1 and RDEN2 do not affect this operation. Following data is (See Datasheet)", 57 Q3 (hiz) "Data out. The first data word to be loaded into the FIFO is moved to Q0-Q17 on the rising edge of the third RDCLK pulse to occur after the first valid write. RDEN1 and RDEN2 do not affect this operation. Following data is (See Datasheet)", 61 Q4 (hiz) "Data out. The first data word to be loaded into the FIFO is moved to Q0-Q17 on the rising edge of the third RDCLK pulse to occur after the first valid write. RDEN1 and RDEN2 do not affect this operation. Following data is (See Datasheet)", 64 Q5 (hiz) "Data out. The first data word to be loaded into the FIFO is moved to Q0-Q17 on the rising edge of the third RDCLK pulse to occur after the first valid write. RDEN1 and RDEN2 do not affect this operation. Following data is (See Datasheet)", 65 Q6 (hiz) "Data out. The first data word to be loaded into the FIFO is moved to Q0-Q17 on the rising edge of the third RDCLK pulse to occur after the first valid write. RDEN1 and RDEN2 do not affect this operation. Following data is (See Datasheet)", 67 Q7 (hiz) "Data out. The first data word to be loaded into the FIFO is moved to Q0-Q17 on the rising edge of the third RDCLK pulse to occur after the first valid write. RDEN1 and RDEN2 do not affect this operation. Following data is (See Datasheet)", 68 Q8 (hiz) "Data out. The first data word to be loaded into the FIFO is moved to Q0-Q17 on the rising edge of the third RDCLK pulse to occur after the first valid write. RDEN1 and RDEN2 do not affect this operation. Following data is (See Datasheet)", 70 Q9 (hiz) "Data out. The first data word to be loaded into the FIFO is moved to Q0-Q17 on the rising edge of the third RDCLK pulse to occur after the first valid write. RDEN1 and RDEN2 do not affect this operation. Following data is (See Datasheet)", 71 Q10 (hiz) "Data out. The first data word to be loaded into the FIFO is moved to Q0-Q17 on the rising edge of the third RDCLK pulse to occur after the first valid write. RDEN1 and RDEN2 do not affect this operation. Following data is (See Datasheet)", 73 Q11 (hiz) "Data out. The first data word to be loaded into the FIFO is moved to Q0-Q17 on the rising edge of the third RDCLK pulse to occur after the first valid write. RDEN1 and RDEN2 do not affect this operation. Following data is (See Datasheet)", 74 Q12 (hiz) "Data out. The first data word to be loaded into the FIFO is moved to Q0-Q17 on the rising edge of the third RDCLK pulse to occur after the first valid write. RDEN1 and RDEN2 do not affect this operation. Following data is (See Datasheet)", 77 Q13 (hiz) "Data out. The first data word to be loaded into the FIFO is moved to Q0-Q17 on the rising edge of the third RDCLK pulse to occur after the first valid write. RDEN1 and RDEN2 do not affect this operation. Following data is (See Datasheet)", 78 Q14 (hiz) "Data out. The first data word to be loaded into the FIFO is moved to Q0-Q17 on the rising edge of the third RDCLK pulse to occur after the first valid write. RDEN1 and RDEN2 do not affect this operation. Following data is (See Datasheet)", 80 Q15 (hiz) "Data out. The first data word to be loaded into the FIFO is moved to Q0-Q17 on the rising edge of the third RDCLK pulse to occur after the first valid write. RDEN1 and RDEN2 do not affect this operation. Following data is (See Datasheet)"
part B pins: 7 OR (out) "Output-ready flag. OR is high when the FIFO is not empty and low when it is empty. During reset, OR is set low on the rising edge of the third RDCLK pulse. OR is set high on the rising edge of the third RDCLK pulse to occur (See Datasheet)", 10 ~{RST} (in) "Reset. A reset is accomplished by taking R\E\S\E\T\ low and generating a minimum of four RDCLK and WRTCLK cycles. This ensures that the internal read and write pointers are reset and that OR, HF, and IR are low, and AF/AE is (See Datasheet)", 11 OE (in) "Output enable. The Q0-Q17 outputs are in the high-impedance state when OE is low. OE must be high before the rising edge of RDCLK to read a word from memory.", 12 RDEN2 (in) "Read enable. RDEN1 and RDEN2 must be high before a rising edge on RDCLK to read a word out of memory. RDEN1 and RDEN2 are not used to read the first word stored in memory.", 13 RDEN1 (in) "Read enable. RDEN1 and RDEN2 must be high before a rising edge on RDCLK to read a word out of memory. RDEN1 and RDEN2 are not used to read the first word stored in memory.", 14 RDCLK (in) "Read clock. Data is read out of memory on the low-to-high transition at RDCLK if OR, OE, and RDEN1 and RDEN2 are high. RDCLK is a free-running clock and functions as the synchronizing clock for all data transfers out of the (See Datasheet)", 39 ~{DAF} (in) "Define almost-full. The high-to-low transition of D\A\F\ stores the binary value of data inputs as the AF/AE offset value (X). With D\A\F\ held low, a R\E\S\E\T\ cycle defines the AF/AE flag using X.", 43 WRTCLK (in) "Write clock. Data is written into memory on a low-to-high transition of WRTCLK if IR, WRTEN1, and WRTEN2 are high. WRTCLK is a free-running clock and functions as the synchronizing clock for all data transfers into the FIFO. (See Datasheet)", 44 WRTEN1 (in) "Write enable. WRTEN1 and WRTEN2 must be high before a rising edge on WRTCLK for a word to be written into memory. WRTEN1 and WRTEN2 do not affect the storage of the AF/AE offset value (X).", 45 WRTEN2 (in) "Write enable. WRTEN1 and WRTEN2 must be high before a rising edge on WRTCLK for a word to be written into memory. WRTEN1 and WRTEN2 do not affect the storage of the AF/AE offset value (X).", 47 AF/AE (out) "Almost-full/almost-empty flag. The AF/AE boundary is defined by the AF/AE offset value (X). Thisvalue can be programmed during reset or the default value of 256 can be used. AF/AE is high when the number of words in memory (See Datasheet)", 50 IR (out) "Input-ready flag. IR is high when the FIFO is not full and low when the device is full. During reset, IR is driven low on the rising edge of the second WRTCLK pulse. IR then is driven high on the rising edge of the second (See Datasheet)", 51 HF (out) "Half-full flag. HF is high when the FIFO contains 1024 or more words and is low when the number of words in memory is less than half the depth of the FIFO."
part C pins: 2 GND (power), 3 GND (power), 6 VCC (power), 8 GND (power), 9 VCC (power), 15 GND (power), 28 VCC (power), 30 GND (power), 42 GND (power), 46 VCC (power), 48 GND (power), 49 GND (power), 52 VCC (power), 55 GND (power), 59 VCC (power), 60 VCC (power), 62 GND (power), 63 GND (power), 66 VCC (power), 69 GND (power), 72 VCC (power), 75 GND (power), 76 GND (power), 79 VCC (power)
part D pins: 1 NC, 19 NC, 20 NC, 21 NC, 40 NC, 41 NC, 58 NC